# EAGLE library part 0480251190 (library connectors-molex)
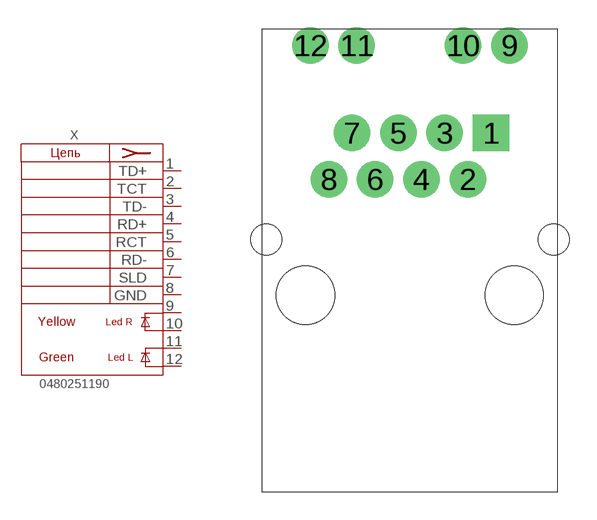
[diagram p13: symbol with the pads of 0480251190; footprint 0480251190]

Designator prefix X

## 0480251190  [0480251190]
1  TD+  pas
2  TCT  pas
3  TD-  pas
4  RD+  pas
5  RCT  pas
6  RD-  pas
7  SLD  pas
8  GND  pas
9  LED_R_A  pas
10  LED_R_C  pas
11  LED_L_A  pas
12  LED_L_C  pas

## Footprint 0480251190 (pad centres in mm)
drill 0.9 pad 2 square: 1 4.445,7.62
drill 0.9 pad 2: 2 3.175,5.08; 3 1.905,7.62; 4 0.635,5.08; 5 -0.635,7.62; 6 -1.905,5.08; 7 -3.175,7.62; 8 -4.445,5.08
drill 1 pad 2: 9 5.455,12.42; 10 2.915,12.42; 11 -2.915,12.42; 12 -5.455,12.42
hole 1.7 at 7.885,1.78
hole 1.7 at -7.865,1.78
hole 3.2 at -5.715,-1.27
hole 3.2 at 5.715,-1.27